# Altium footprint library Calculator_2X2.PcbLib: 22 footprints (part 2 of 2)
Each footprint in its own frame and in the unit in brackets; x right, y up, seen from the top. Pads: shape width x height; smd on the part's side, far side on the other; paste and mask are expansions set on the pad; w line width, h text height; cw(c..) or ccw(c..) is an arc to the next point about the centre after c.
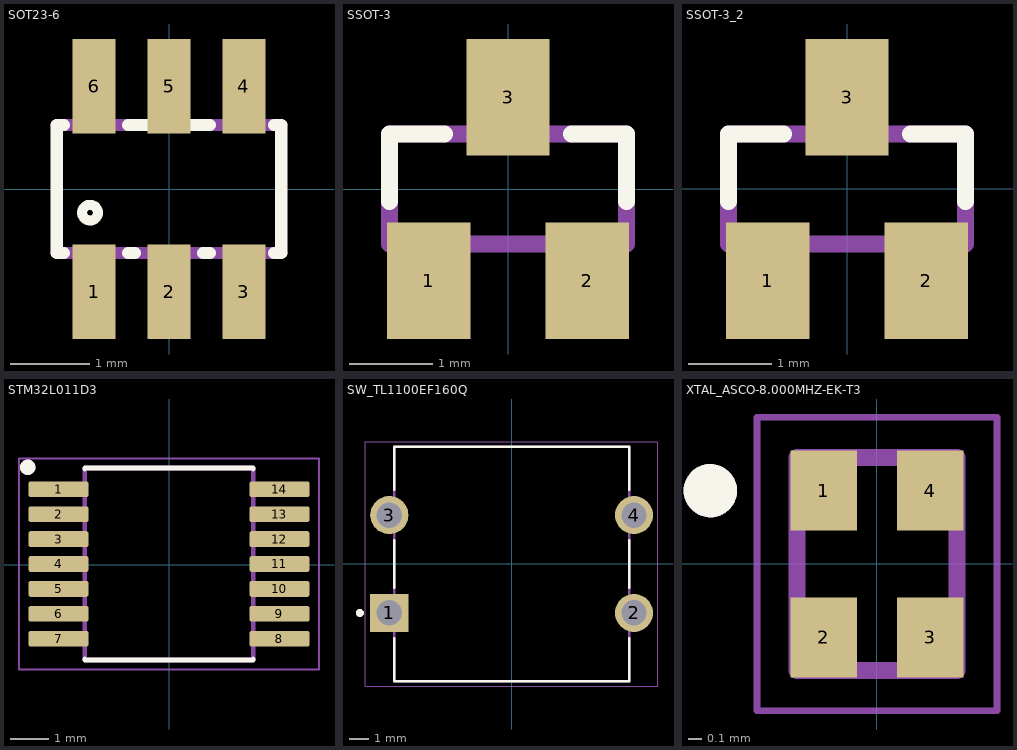
[diagram p1: the footprints below, top view; thin cyan lines are the x and y axes]

## SOT23-6 [mm]
height 1
pads (6):
  rect 0.55x1.2 smd: 1(-0.95,-1.3) 2(0,-1.3) 3(0.95,-1.3) 4(0.95,1.3) 5(0,1.3) 6(-0.95,1.3)
Top Overlay:
  circle w0.127: c-1,-0.3 r0.1
  lines w0.152: -1.328,-0.81 -1.422,-0.81 -1.422,0.81 -1.328,0.81 ; -0.522,-0.81 -0.428,-0.81 ; -0.522,0.81 0.522,0.81 ; 0.428,-0.81 0.522,-0.81 ; 1.328,-0.81 1.422,-0.81 1.422,0.81 1.328,0.81
Mechanical 13:
  lines w0.152: -1.422,-0.81 1.422,-0.81 ; -1.422,0.81 1.422,0.81
3D body "step_temp.STEP": height 1.45, standoff 0, extent -1.4,-1.45 1.4,1.45

## SSOT-3 [mm]
height 1
pads (3):
  rect 1x1.4 smd: 1(-0.95,-1.1) 2(0.95,-1.1) 3(0,1.1)
Top Overlay:
  lines w0.203: -1.422,-0.152 -1.422,0.66 -0.764,0.66 ; 0.764,0.66 1.422,0.66 1.422,-0.152
Mechanical 13:
  region: -0.711,-1.296 -1.169,-1.296 -1.169,-0.711 -0.711,-0.711
  region: 1.168,-1.296 0.712,-1.296 0.712,-0.711 1.168,-0.711
  region: 0.229,0.712 -0.229,0.712 -0.229,1.295 0.229,1.295
  lines w0.203: -1.422,-0.66 -1.422,0.66 1.422,0.66 1.422,-0.66 -1.422,-0.66

## SSOT-3_2 [mm]
pads (3):
  rect 1x1.4 smd: 1(-0.95,-1.1) 2(0.95,-1.1) 3(0,1.1)
Top Overlay:
  lines w0.203: -1.422,-0.152 -1.422,0.66 -0.764,0.66 ; 0.764,0.66 1.422,0.66 1.422,-0.152
Mechanical 13:
  region: 0.229,0.712 -0.229,0.712 -0.229,1.295 0.229,1.295
  region: 1.168,-1.295 0.711,-1.295 0.711,-0.711 1.168,-0.711
  region: -0.711,-1.298 -1.17,-1.298 -1.17,-0.711 -0.711,-0.711
  lines w0.203: -1.422,-0.66 1.422,-0.66 1.422,0.66 -1.422,0.66 -1.422,-0.66

## STM32L011D3 [mm] "TSSOP-14"
height 1
pads (14):
  rrect25% 1.56x0.41 smd: 1(-2.88,1.97) 2(-2.88,1.32) 3(-2.88,0.67) 4(-2.88,0.02) 5(-2.88,-0.63) 6(-2.88,-1.28) 7(-2.88,-1.93) 8(2.88,-1.93) 9(2.88,-1.28) 10(2.88,-0.63) 11(2.88,0.02) 12(2.88,0.67) 13(2.88,1.32) 14(2.88,1.97)
Top Overlay:
  circle w0.2: c-3.683,2.54 r0.1
  lines w0.127: -2.195,-2.455 -2.195,-2.48 2.195,-2.48 2.195,-2.455 ; -2.195,2.495 -2.195,2.52 2.195,2.52 2.195,2.495
Mechanical 13:
  circle w0.2: c-3.683,2.54 r0.1
  lines w0.127: -2.195,-2.48 -2.195,2.52 2.195,2.52 2.195,-2.48 -2.195,-2.48
Mechanical 15:
  lines w0.05: -3.91,-2.73 3.91,-2.73 3.91,2.77 -3.91,2.77 -3.91,-2.73
3D body "step_temp.STEP": height 1.2, standoff 0, extent -3.2,-2.48 3.2,2.52

## SW_TL1100EF160Q [mm]
height 7.8
pads (4):
  rect 1.95x1.95 / inner round 1.95 / far side rect 1.95x1.95 hole 1.3: 1(-6.25,-2.5)
  round 1.95 hole 1.3: 2(6.25,-2.5) 3(-6.25,2.5) 4(6.25,2.5)
Top Overlay:
  circle w0.2: c-7.75,-2.5 r0.1
  lines w0.127: -6,-3.788 -6,-6 6,-6 6,-3.788 ; -6,-1.212 -6,1.211 ; -6,3.788 -6,6 6,6 6,3.788 ; 6,-1.212 6,1.211
Mechanical 13:
  circle w0.2: c-7.75,-2.5 r0.1
  lines w0.127: -6,-6 6,-6 6,6 -6,6 -6,-6
Mechanical 15:
  lines w0.05: -7.475,-6.25 -7.475,6.25 7.475,6.25 7.475,-6.25 -7.475,-6.25
3D body "step_temp.STEP": height 7.5, standoff -3.5, extent -6.999,-6 6.999,6

## XTAL_ASCO-8.000MHZ-EK-T3 [mm]
height 0.7
pads (4):
  rect 0.5x0.6 smd: 1(-0.4,0.55) 2(-0.4,-0.55) 3(0.4,-0.55) 4(0.4,0.55)
Top Overlay:
  circle w0.2: c-1.25,0.55 r0.1
Mechanical 13:
  circle w0.2: c-1.25,0.55 r0.1
  lines w0.127: -0.6,-0.8 -0.6,0.8 0.6,0.8 0.6,-0.8 -0.6,-0.8
Mechanical 15:
  lines w0.05: -0.9,-1.1 -0.9,1.1 0.9,1.1 0.9,-1.1 -0.9,-1.1